# Altium schematic symbol library ECS-80-18-5PX-TR.SchLib: 2 symbols
Pins are listed as number, name and electrical type; pins without a type are passive.

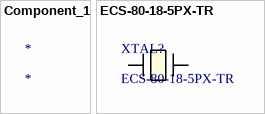
[diagram p0: symbols Component_1 to ECS-80-18-5PX-TR]

## Component_1
designator *

## ECS-80-18-5PX-TR
designator XTAL?
No Description Available; Mfr_Name: ECS International; Copyright: Copyright (C) 2023 Ultra Librarian. All rights reserved.; Manufacturer_Part_Number: ECS-80-18-5PX-TR; Digi-Key_Part_Number_1: XC1271TR-ND; Digi-Key_Part_Number_2: XC1271CT-ND; Digi-Key_Part_Number_3: XC1271DKR-ND; RefDes: RefDes; Type: DEV
footprint CRYSTAL_ECS-80-18-5PX-TR_ECS
pins: 1, 2